# Altium footprint library led.PcbLib: 1 footprints
Each footprint in its own frame and in the unit in brackets; x right, y up, seen from the top. Pads: shape width x height; smd on the part's side, far side on the other; paste and mask are expansions set on the pad; w line width, h text height; cw(c..) or ccw(c..) is an arc to the next point about the centre after c.
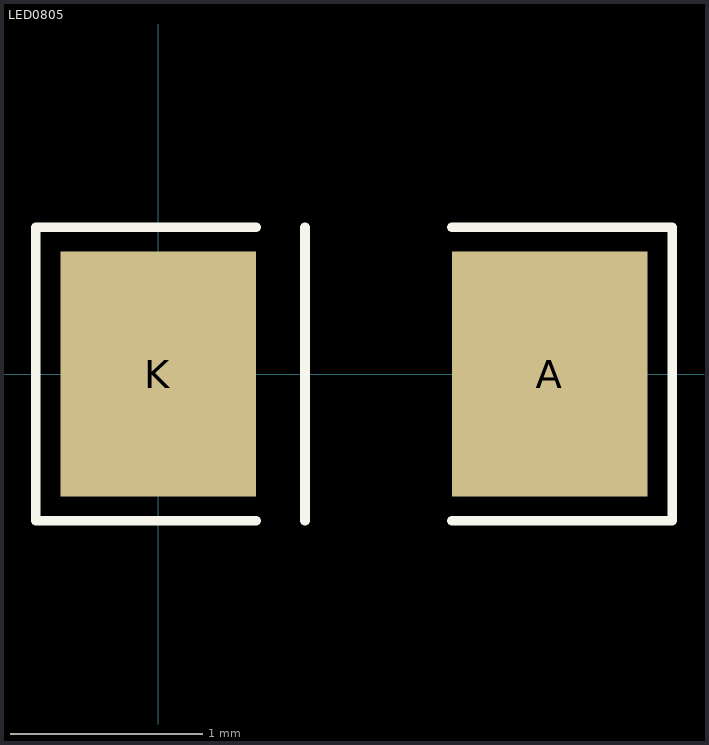
[diagram p0: the footprint, top view; thin cyan lines are the x and y axes]

## LED0805 [mil]
pads (2):
  rect 40x50 smd: A(80,0) K(0,0)
Top Overlay:
  lines w1.97: 30,-30 30,30
  lines w2: 20,-30 -25,-30 -25,30 20,30 ; 60,-30 105,-30 105,30 60,30
3D body "led_cms_0805.STEP": height 31.5, standoff 0, extent 0.63,-24.61 79.37,24.61